# EAGLE library part PCM5102APWR (library Deegou_IC)
2VRMS DirectPath™, 112dB Audio Stereo DAC with 32-bit, 384kHz PCM Interface Source: Datasheet <https://componentsearchengine.com/Datasheets/2/PCM5102APWR.pdf>
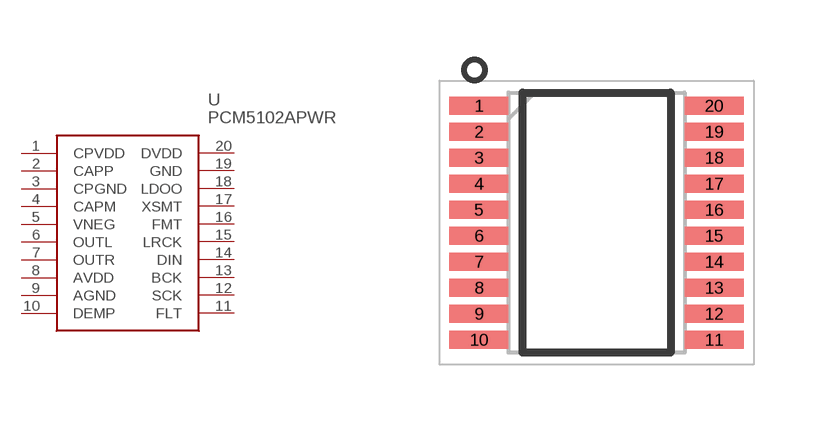
[diagram p52: symbol with the pads of SOP65P640X120-20N; footprint SOP65P640X120-20N]

Designator prefix U

## PCM5102APWR (ARROW_PART_NUMBER: PCM5102APWR; ARROW_PRICE-STOCK: https://www.arrow.com/en/products/pcm5102apwr/texas-instruments; DESCRIPTION: 2VRMS DirectPath&#153;, 112dB Audio Stereo DAC with 32-bit, 384kHz PCM Interface; HEIGHT: 1.2mm; MANUFACTURER_NAME: Texas Instruments; MANUFACTURER_PART_NUMBER: PCM5102APWR)  [SOP65P640X120-20N]
1  CPVDD
2  CAPP
3  CPGND
4  CAPM
5  VNEG
6  OUTL
7  OUTR
8  AVDD
9  AGND
10  DEMP
11  FLT
12  SCK
13  BCK
14  DIN
15  LRCK
16  FMT
17  XSMT
18  LDOO
19  GND
20  DVDD

## Footprint SOP65P640X120-20N (pad centres in mm)
PW (R-PDSO-G20)
smd 1.475 x 0.45: 1 -2.938,2.925; 2 -2.938,2.275; 3 -2.938,1.625; 4 -2.938,0.975; 5 -2.938,0.325; 6 -2.938,-0.325; 7 -2.938,-0.975; 8 -2.938,-1.625; 9 -2.938,-2.275; 10 -2.938,-2.925; 11 2.938,-2.925; 12 2.938,-2.275; 13 2.938,-1.625; 14 2.938,-0.975; 15 2.938,-0.325; 16 2.938,0.325; 17 2.938,0.975; 18 2.938,1.625; 19 2.938,2.275; 20 2.938,2.925